# EAGLE library part A250-1601.5M1 (library saw-filters-narrowband)
A250-1601.5M1 Параметр Ед. изм. Мин. значение Тип. значение Макс. значение Центральная частота МГц 1599.5 1601.5 1603.5 Минимальное вносимое затухание дБ 1.8 2 2.5 Полоса среза по уровню -1.5 дБ МГц 23 25 28 Полоса среза по уровню -37 дБ МГц - 80 84 Неравномерность АЧХ дБ - 1 1.5 Групповое время задержки нс - - - Гарантированное затухание дБ - 50 - Температурный диапазон °C -55 22 +85 Материал подложки - - Танталат лития 36 -
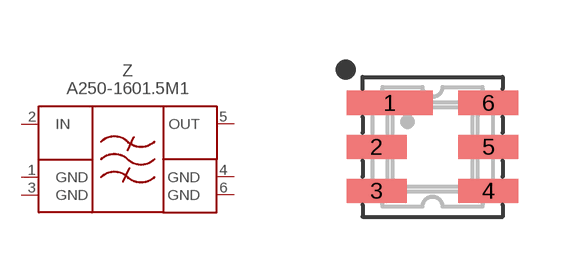
[diagram p3: symbol with the pads of DCC6; footprint DCC6]

Designator prefix Z

## A250-1601.5M1  [DCC6]
1  GND  pwr
2  IN  in
3  GND  pwr
4  GND  pwr
5  OUT  out
6  GND  pwr

## Footprint DCC6 (pad centres in mm)
smd 2.15 x 0.6: 1 -1.075,1.1
smd 1.5 x 0.6: 2 -1.4,0; 3 -1.4,-1.1; 4 1.4,-1.1; 5 1.4,0; 6 1.4,1.1